# EAGLE library part MC6850 (library micro-motorola)
MC6850 - http://www.GIMEchip.com/ MC6850 - ASYNCHRONOUS COMMUNICATIONS INTERFACE ADAPTER (ACIA) E.A.G.L.E. Library Part created by J&R - sales@gimechip.com <mailto:sales@gimechip.com?subject=MC6850 - ASYNCHRONOUS COMMUNICATIONS INTERFACE ADAPTER (ACIA) E.A.G.L.E. Library Part> COMPATIBILITY This E.A.G.L.E. Library Part is compatible with all variants of the 6850 in the 24-pin DIP package, including the following: Manufacturer Type Process Clock Frequency Package Motorola Freescale Semiconductors MC6850L MC6850CL MC68A50L MC68A50CL MC68B50C MOS (N-CHANNEL, SILICON-GATE) 1.0 MHz 1.0 MHz 1.5 MHz 1.5 MHz 2.0 MHz Ceramic L Suffix Motorola Freescale Semiconductors MC6850S MC6850CS MC68A50S MC68A50CS MC68B50S MOS (N-CHANNEL, SILICON-GATE) 1.0 MHz 1.0 MHz 1.5 MHz 1.5 MHz 2.0 MHz Cerdip S Suffix Motorola Freescale Semiconductors MC6850P MC6850CP MC68A50P MC68A50CP MC68B50P MOS (N-CHANNEL, SILICON-GATE) 1.0 MHz 1.0 MHz 1.5 MHz 1.5 MHz 2.0 MHz Plastic P Suffix Hitachi Semiconductors HD6350P HD63A50P HD63B50P HD63C50P CMOS 1.0 MHz 1.5 MHz 2.0 MHz 3.0 MHz DP-24 Hitachi Semiconductors HD6350FP HD63A50FP HD63B50FP HD63C50FP CMOS 1.0 MHz 1.5 MHz 2.0 MHz 3.0 MHz FP-24D Hitachi Semiconductors HD6850 HD68A50 HD68B50 NMOS 1.0 MHz 1.5 MHz 2.0 MHz DC-24 Hitachi Semiconductors HD6850P HD68A50P HD68B50P NMOS 1.0 MHz 1.5 MHz 2.0 MHz DP-24 NOTE: The Hitachi "C" parts are officially rated at 3 MHz, however, they are designed to operate at up to 5 MHz clock speeds. MOTOROLA (FREESCALE) SEMICONDUCTORS MC6850 - MOS (N-CHANNEL, SILICON-GATE) ASYNCHRONOUS COMMUNICATIONS INTERFACE ADAPTER The MC6850 Asynchronous Communications Interface Adapter provides the data formatting and control to interface serial asynchronous data communications information to bus organized systems such as the MC6800 and MC6809 Microprocessing Units. The bus interface of the MC6850 includes select, enable, read/write, interrupt and bus interface logic to allow data transfer over an 8-bit bidirectional data bus. The parallel data of the bus system is serially transmitted and received by the asynchronous data interface, with proper formatting and error checking. The functional configuration of the ACIA is programmed via the data bus during system initialization. A programmable Control Register provides variable word lengths, clock division ratios, transmit control, receive control, and interrupt control. For peripheral or modem operation, three control lines are provided. These lines allow the ACIA to interface directly with the MC6860L 0-600 bps digital modem. FEATURES 8- and 9-Bit Transmission Optional Even and Odd Parity Parity, Overrun and Framing Error Checking Programmable Control Register Optional ÷ 1, ÷ 16, and ÷ 64 Clock Modes Up to 1.0 Mbps Transmission False Start Bit Deletion Peripheral/Modem Control Functions Double Buffered One- or Two-Stop Bit Operation HD6350/HD6850 Series ACIA (Asynchronous Communications Interface Adapter) HD6350 = CMOS, HD6850 = NMOS The HD6350/HD6850 Asynchronous Communications Interface Adapter provides the data formatting and control to interface serial asynchronous data communications information to bus organized systems such as the HMCS6800 Microprocessing Unit (MPU). The bus interface of the HD6350/HD6850 includes select, enable, read/writer, interrupt and bus interface logic to allow data transfer over an 8-bit bi-directional data bus. The parrallel data of the bus system is serially transmitted and received by the asynchronous data interface with proper formatting and error checking. The functional configuration of the ACIA is programmed via the data bus during system initialization. A programmable Control Register provides variable word lengths, clock division ratios, transmit control, receive control, and interrupt control. For peripheral or modern operation three control lines are provided. FEATURES Serial/Parallel Conversion of Data Seven and Eight-bit Transmission Optional Even and Odd Parity Parity, Overrun and Framing Error Checking Peripheral/Modem Control Functions (Clear to Send CTS, Request to Send RTS, Data Carrier Detect DCD) Optional ÷ 1, ÷ 16, and ÷ 64 Clock Modes One-or Two-Stop Bit Operation Double Buffered - HD6350 - Low-Power, High-Speed, High-Density CMOS Compatible with NMOS ACIA (HD6850) Wide Range Operating Voltage (VCC = 5V ±10%) Up to 1Mbps Transmission - HD6850 - Compatible with MC6850 and MC68A50 Up to 500Kbps Transmission
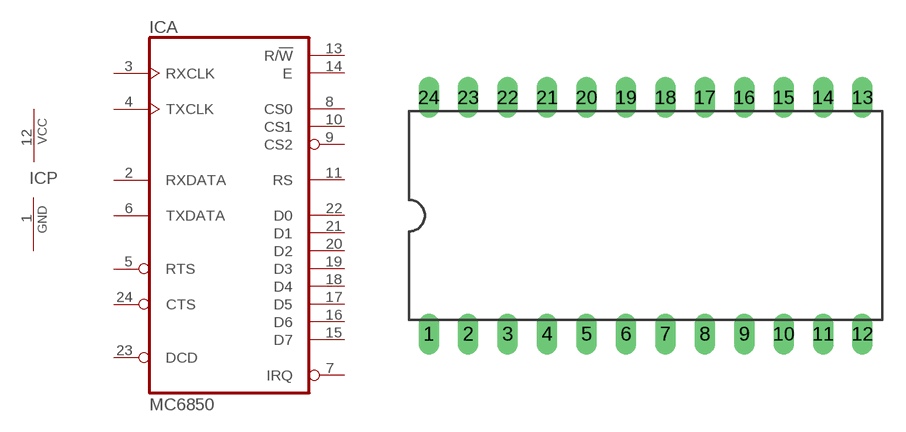
[diagram p83: symbol with the pads of DIP-24; footprint DIP-24]

Designator prefix IC; gates A=MC6850 P=PWRN

## MC6850  [DIP-24]
1  P:GND  pwr
2  A:RXDATA  in
3  A:RXCLK  in
4  A:TXCLK  in
5  A:RTS  out
6  A:TXDATA  out
7  A:IRQ  out
8  A:CS0  in
9  A:CS2  in
10  A:CS1  in
11  A:RS  in
12  P:VCC  pwr
13  A:R/!W  in
14  A:E  in
15  A:D7
16  A:D6
17  A:D5
18  A:D4
19  A:D3
20  A:D2
21  A:D1
22  A:D0
23  A:DCD  in
24  A:CTS  in

## Footprint DIP-24 (pad centres in mm)
Dual In Line Package
drill 0.813 long: 1 -13.97,-7.62; 2 -11.43,-7.62; 3 -8.89,-7.62; 4 -6.35,-7.62; 5 -3.81,-7.62; 6 -1.27,-7.62; 7 1.27,-7.62; 8 3.81,-7.62; 9 6.35,-7.62; 10 8.89,-7.62; 11 11.43,-7.62; 12 13.97,-7.62; 13 13.97,7.62; 14 11.43,7.62; 15 8.89,7.62; 16 6.35,7.62; 17 3.81,7.62; 18 1.27,7.62; 19 -1.27,7.62; 20 -3.81,7.62; 21 -6.35,7.62; 22 -8.89,7.62; 23 -11.43,7.62; 24 -13.97,7.62